# EAGLE library part TPD12S016 (library basicBoard)
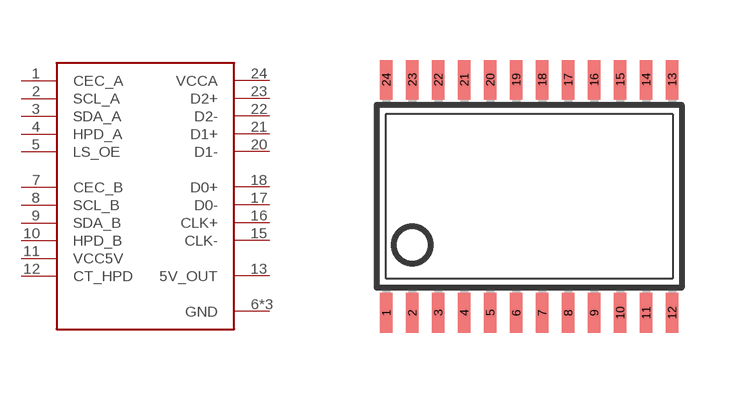
[diagram p5: symbol with the pads of TSSOP24; footprint TSSOP24]

Designator prefix -

## TPD12S016  [TSSOP24]
1  CEC_A
2  SCL_A
3  SDA_A
4  HPD_A
5  LS_OE
6  GND
7  CEC_B
8  SCL_B
9  SDA_B
10  HPD_B
11  VCC5V
12  CT_HPD
13  5V_OUT
14  GND
15  CLK-
16  CLK+
17  D0-
18  D0+
19  GND
20  D1-
21  D1+
22  D2-
23  D2+
24  VCCA

## Footprint TSSOP24 (pad centres in mm)
Thin Shrink Small Outline Plastic 24 MAX3223-MAX3243.pdf
smd 0.305 x 0.991: 1 -3.575,-2.918; 2 -2.925,-2.918; 3 -2.275,-2.918; 4 -1.625,-2.918; 5 -0.975,-2.918; 6 -0.325,-2.918; 7 0.325,-2.918; 8 0.975,-2.918; 9 1.625,-2.918; 10 2.275,-2.918; 11 2.925,-2.918; 12 3.575,-2.918; 13 3.575,2.918; 14 2.925,2.918; 15 2.275,2.918; 16 1.625,2.918; 17 0.975,2.918; 18 0.325,2.918; 19 -0.325,2.918; 20 -0.975,2.918; 21 -1.625,2.918; 22 -2.275,2.918; 23 -2.925,2.918; 24 -3.575,2.918